# Altium integrated library NSC Switch Caps.IntLib: 64 symbols (part 2 of 2)
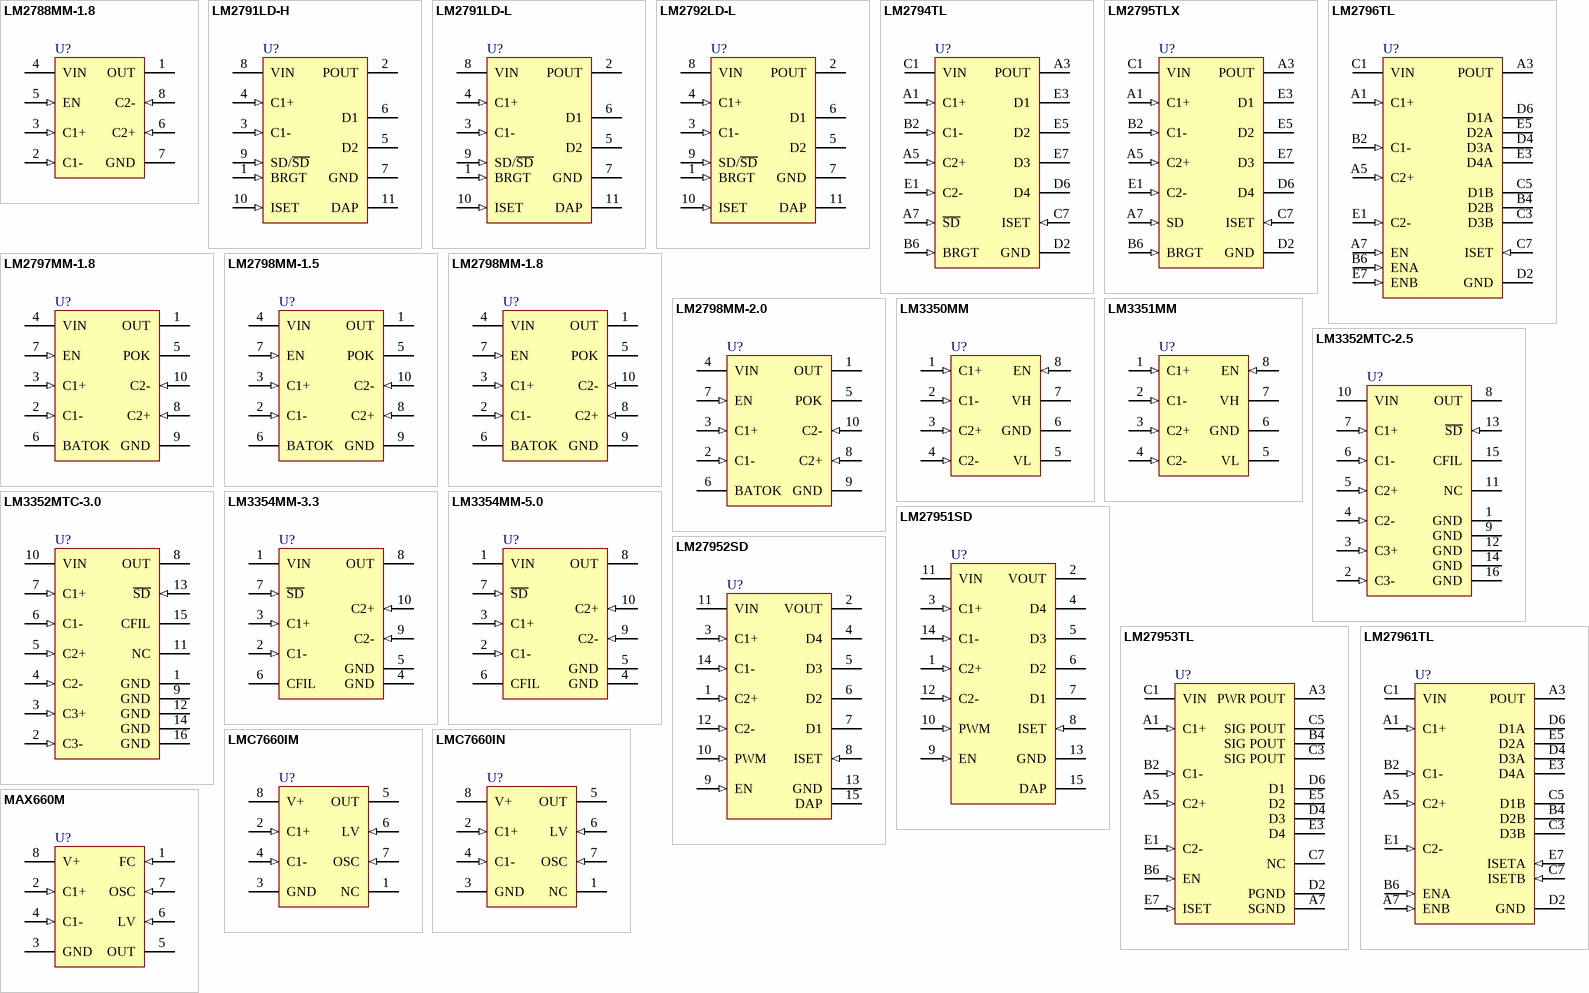
[diagram p2: symbols LM2788MM-1.8 to MAX660M]

## LM2794TL
designator U?
Current Regulated Switched Capacitor LED Supply with Analog and PWM Brightness Control; PartNumber: LM2794TL; Manufacturer: National Semiconductor; CompType: Switch Caps; PackageTopMarking: XYTT*I LOG; Published: 4-Dec-2008; DatasheetVersion: Mar-2004; PackageVersion: revC, Mar-2004; PackageReference: TLP14EHA; Publisher: Altium Limited; PackageDescription: Thin Micro SMD, 14 Bump (Large), Peripheral, 0.5mm Pitch; RoHS: Y; PinCount: 14; DigiKeyPartNumber: LM2794TLCT-ND; ComponentLink1Description: LM2794 Datasheet; ComponentLink1URL: http://www.national.com/ds/LM/LM2794.pdf; ComponentLink2Description: LM2794 Web Page; ComponentLink2URL: http://www.national.com/pf/LM/LM2794.html; ComponentLink3Description: TLP14EHA Package Page; ComponentLink3URL: http://www.national.com/packaging/folders/tlp14eha.html
footprint TLP14EHA (Micro SMD, 14-Leads, Body 2.4x2.1mm, Pitch 0.5mm, NSC Recommended)
pins: A1 C1+ (in), A3 POUT (power), A5 C2+ (in), A7 ~{SD} (in), B2 C1- (in), B6 BRGT (in), C1 VIN (power), C7 ISET (in), D2 GND (power), D6 D4 (oc), E1 C2- (in), E3 D1 (oc), E5 D2 (oc), E7 D3 (oc)

## LM2795TLX
designator U?
Current Regulated Switched Capacitor LED Supply with Analog and PWM Brightness Control; PartNumber: LM2795TLX; Manufacturer: National Semiconductor; CompType: Switch Caps; PackageTopMarking: XYTT*I LOJ; Published: 4-Dec-2008; DatasheetVersion: Mar-2004; PackageVersion: revC, Mar-2004; PackageReference: TLP14EHA; Publisher: Altium Limited; PackageDescription: Thin Micro SMD, 14 Bump (Large), Peripheral, 0.5mm Pitch; RoHS: Y; PinCount: 14; ComponentLink1Description: LM2795 Datasheet; ComponentLink1URL: http://www.national.com/ds/LM/LM2795.pdf; ComponentLink2Description: LM2795 Web Page; ComponentLink2URL: http://www.national.com/pf/LM/LM2795.html; ComponentLink3Description: TLP14EHA Package Page; ComponentLink3URL: http://www.national.com/packaging/folders/tlp14eha.html
footprint TLP14EHA (Micro SMD, 14-Leads, Body 2.4x2.1mm, Pitch 0.5mm, NSC Recommended)
pins: A1 C1+ (in), A3 POUT (power), A5 C2+ (in), A7 SD (in), B2 C1- (in), B6 BRGT (in), C1 VIN (power), C7 ISET (in), D2 GND (power), D6 D4 (oc), E1 C2- (in), E3 D1 (oc), E5 D2 (oc), E7 D3 (oc)

## LM2796TL
designator U?
Dual-Display White LED Driver with 3/2x Switched Capacitor Boost; PartNumber: LM2796TL; Manufacturer: National Semiconductor; CompType: Switch Caps; PackageTopMarking: XYTT*I SAJB; Published: 4-Dec-2008; DatasheetVersion: Feb-2004; PackageVersion: revD, Jan-2005; PackageReference: TLA18EHA; Publisher: Altium Limited; PackageDescription: Thin Micro SMD, 18 Bump (Large), 0.5mm Pitch; RoHS: Y; PinCount: 18; DigiKeyPartNumber: LM2796TLCT-ND; ComponentLink1Description: LM2796 Datasheet; ComponentLink1URL: http://www.national.com/ds/LM/LM2796.pdf; ComponentLink2Description: LM2796 Web Page; ComponentLink2URL: http://www.national.com/pf/LM/LM2796.html; ComponentLink3Description: TLA18EHA Package Page; ComponentLink3URL: http://www.national.com/packaging/folders/tla18eha.html
footprint TLA18EHA (Micro SMD, 18-Leads, Body 2.4x2.1mm, Pitch 0.5mm, NSC Recommended)
pins: A1 C1+ (in), A3 POUT (power), A5 C2+ (in), A7 EN (in), B2 C1- (in), B4 D2B (oc), B6 ENA (in), C1 VIN (power), C3 D3B (oc), C5 D1B (oc), C7 ISET (in), D2 GND (power), D4 D3A (oc), D6 D1A (oc), E1 C2- (in), E3 D4A (oc), E5 D2A (oc), E7 ENB (in)

## LM2797MM-1.8
designator U?
120mA High Efficiency Step-Down Switched Capacitor Voltage Converter with Voltage Monitoring; PartNumber: LM2797MM-1.8; Manufacturer: National Semiconductor; CompType: Switch Caps; PackageTopMarking: ZXTT*S80B; Published: 4-Dec-2008; DatasheetVersion: Apr-2003; PackageVersion: revB, Jul-2003; PackageReference: MUB10A; Publisher: Altium Limited; PackageDescription: Mini-SO, Molded, .118 x .118 x .034in Body, 10 Lead, .0197in Pitch; RoHS: Y; PinCount: 10; DigiKeyPartNumber: LM2797MM-1.8CT-ND; Code_JEDEC: MO-187-BA; ComponentLink1Description: LM2797 Datasheet; ComponentLink1URL: http://www.national.com/ds/LM/LM2797.pdf; ComponentLink2Description: LM2797 Web Page; ComponentLink2URL: http://www.national.com/pf/LM/LM2797.html; ComponentLink3Description: MUB10A Package Page; ComponentLink3URL: http://www.national.com/packaging/folders/mub10a.html
footprint MUB10A_N (TSSOP, 10-Leads, Body 3x3mm, Pitch 0.5mm, IPC Medium Density)
footprint MUB10A_L (TSSOP, 10-Leads, Body 3x3mm, Pitch 0.5mm, IPC High Density)
footprint MUB10A_M (TSSOP, 10-Leads, Body 3x3mm, Pitch 0.5mm, IPC Low Density)
pins: 1 OUT (power), 2 C1- (in), 3 C1+ (in), 4 VIN (power), 5 POK (oc), 6 BATOK (oc), 7 EN (in), 8 C2+ (in), 9 GND (power), 10 C2- (in)

## LM2798MM-1.5
designator U?
120mA High Efficiency Step-Down Switched Capacitor Voltage Converter with Voltage Monitoring; PartNumber: LM2798MM-1.5; Manufacturer: National Semiconductor; CompType: Switch Caps; PackageTopMarking: ZXTT*S56B; Published: 4-Dec-2008; DatasheetVersion: Apr-2003; PackageVersion: revB, Jul-2003; PackageReference: MUB10A; Publisher: Altium Limited; PackageDescription: Mini-SO, Molded, .118 x .118 x .034in Body, 10 Lead, .0197in Pitch; RoHS: Y; PinCount: 10; DigiKeyPartNumber: LM2798MM-1.5CT-ND; Code_JEDEC: MO-187-BA; ComponentLink1Description: LM2798 Datasheet; ComponentLink1URL: http://www.national.com/ds/LM/LM2798.pdf; ComponentLink2Description: LM2798 Web Page; ComponentLink2URL: http://www.national.com/pf/LM/LM2798.html; ComponentLink3Description: MUB10A Package Page; ComponentLink3URL: http://www.national.com/packaging/folders/mub10a.html
footprint MUB10A_N (TSSOP, 10-Leads, Body 3x3mm, Pitch 0.5mm, IPC Medium Density)
footprint MUB10A_L (TSSOP, 10-Leads, Body 3x3mm, Pitch 0.5mm, IPC High Density)
footprint MUB10A_M (TSSOP, 10-Leads, Body 3x3mm, Pitch 0.5mm, IPC Low Density)
pins: 1 OUT (power), 2 C1- (in), 3 C1+ (in), 4 VIN (power), 5 POK (oc), 6 BATOK (oc), 7 EN (in), 8 C2+ (in), 9 GND (power), 10 C2- (in)

## LM2798MM-1.8
designator U?
120mA High Efficiency Step-Down Switched Capacitor Voltage Converter with Voltage Monitoring; PartNumber: LM2798MM-1.8; Manufacturer: National Semiconductor; CompType: Switch Caps; PackageTopMarking: ZXTT*S57B; Published: 4-Dec-2008; DatasheetVersion: Apr-2003; PackageVersion: revB, Jul-2003; PackageReference: MUB10A; Publisher: Altium Limited; PackageDescription: Mini-SO, Molded, .118 x .118 x .034in Body, 10 Lead, .0197in Pitch; RoHS: Y; PinCount: 10; DigiKeyPartNumber: LM2798MM-1.8CT-ND; Code_JEDEC: MO-187-BA; ComponentLink1Description: LM2798 Datasheet; ComponentLink1URL: http://www.national.com/ds/LM/LM2798.pdf; ComponentLink2Description: LM2798 Web Page; ComponentLink2URL: http://www.national.com/pf/LM/LM2798.html; ComponentLink3Description: MUB10A Package Page; ComponentLink3URL: http://www.national.com/packaging/folders/mub10a.html
footprint MUB10A_N (TSSOP, 10-Leads, Body 3x3mm, Pitch 0.5mm, IPC Medium Density)
footprint MUB10A_L (TSSOP, 10-Leads, Body 3x3mm, Pitch 0.5mm, IPC High Density)
footprint MUB10A_M (TSSOP, 10-Leads, Body 3x3mm, Pitch 0.5mm, IPC Low Density)
pins: 1 OUT (power), 2 C1- (in), 3 C1+ (in), 4 VIN (power), 5 POK (oc), 6 BATOK (oc), 7 EN (in), 8 C2+ (in), 9 GND (power), 10 C2- (in)

## LM2798MM-2.0
designator U?
120mA High Efficiency Step-Down Switched Capacitor Voltage Converter with Voltage Monitoring; PartNumber: LM2798MM-2.0; Manufacturer: National Semiconductor; CompType: Switch Caps; PackageTopMarking: ZXTT*S58B; Published: 4-Dec-2008; DatasheetVersion: Apr-2003; PackageVersion: revB, Jul-2003; PackageReference: MUB10A; Publisher: Altium Limited; PackageDescription: Mini-SO, Molded, .118 x .118 x .034in Body, 10 Lead, .0197in Pitch; RoHS: Y; PinCount: 10; DigiKeyPartNumber: LM2798MM-2.0CT-ND; Code_JEDEC: MO-187-BA; ComponentLink1Description: LM2798 Datasheet; ComponentLink1URL: http://www.national.com/ds/LM/LM2798.pdf; ComponentLink2Description: LM2798 Web Page; ComponentLink2URL: http://www.national.com/pf/LM/LM2798.html; ComponentLink3Description: MUB10A Package Page; ComponentLink3URL: http://www.national.com/packaging/folders/mub10a.html
footprint MUB10A_N (TSSOP, 10-Leads, Body 3x3mm, Pitch 0.5mm, IPC Medium Density)
footprint MUB10A_L (TSSOP, 10-Leads, Body 3x3mm, Pitch 0.5mm, IPC High Density)
footprint MUB10A_M (TSSOP, 10-Leads, Body 3x3mm, Pitch 0.5mm, IPC Low Density)
pins: 1 OUT (power), 2 C1- (in), 3 C1+ (in), 4 VIN (power), 5 POK (oc), 6 BATOK (oc), 7 EN (in), 8 C2+ (in), 9 GND (power), 10 C2- (in)

## LM3350MM
designator U?
Switched Capacitor Voltage Converter; PartNumber: LM3350MM; Manufacturer: National Semiconductor; CompType: Switch Caps; PackageTopMarking: ZXTT*S00A; Published: 4-Dec-2008; DatasheetVersion: Dec-1999; PackageVersion: revF, Apr-2008; PackageReference: MUA08A; Publisher: Altium Limited; PackageDescription: MINI SOIC, .118 x .118 x .034in, 8 Lead, .0256in Pitch; RoHS: Y; PinCount: 8; DigiKeyPartNumber: LM3350MMCT-ND; Code_JEDEC: MO-187-AA; ComponentLink1Description: LM3350 Datasheet; ComponentLink1URL: http://www.national.com/ds/LM/LM3350.pdf; ComponentLink2Description: LM3350 Web Page; ComponentLink2URL: http://www.national.com/pf/LM/LM3350.html; ComponentLink3Description: MUA08A Package Page; ComponentLink3URL: http://www.national.com/packaging/folders/mua08a.html
footprint MUA08A_N (TSOP, 8-Leads, Body 3x3mm, Pitch 0.65mm, IPC Medium Density)
footprint MUA08A_L (TSOP, 8-Leads, Body 3x3mm, Pitch 0.65mm, IPC High Density)
footprint MUA08A_M (TSOP, 8-Leads, Body 3x3mm, Pitch 0.65mm, IPC Low Density)
pins: 1 C1+ (in), 2 C1- (in), 3 C2+ (in), 4 C2- (in), 5 VL (power), 6 GND (power), 7 VH (power), 8 EN (in)

## LM3351MM
designator U?
Switched Capacitor Voltage Converter; PartNumber: LM3351MM; Manufacturer: National Semiconductor; CompType: Switch Caps; PackageTopMarking: ZXTT*S05A; Published: 4-Dec-2008; DatasheetVersion: Dec-1999; PackageVersion: revF, Apr-2008; PackageReference: MUA08A; Publisher: Altium Limited; PackageDescription: MINI SOIC, .118 x .118 x .034in, 8 Lead, .0256in Pitch; RoHS: O; PinCount: 8; DigiKeyPartNumber: LM3351MMCT-ND; Code_JEDEC: MO-187-AA; ComponentLink1Description: LM3351 Datasheet; ComponentLink1URL: http://www.national.com/ds/LM/LM3351.pdf; ComponentLink2Description: LM3351 Web Page; ComponentLink2URL: http://www.national.com/pf/LM/LM3351.html; ComponentLink3Description: MUA08A Package Page; ComponentLink3URL: http://www.national.com/packaging/folders/mua08a.html
footprint MUA08A_N (TSOP, 8-Leads, Body 3x3mm, Pitch 0.65mm, IPC Medium Density)
footprint MUA08A_L (TSOP, 8-Leads, Body 3x3mm, Pitch 0.65mm, IPC High Density)
footprint MUA08A_M (TSOP, 8-Leads, Body 3x3mm, Pitch 0.65mm, IPC Low Density)
pins: 1 C1+ (in), 2 C1- (in), 3 C2+ (in), 4 C2- (in), 5 VL (power), 6 GND (power), 7 VH (power), 8 EN (in)

## LM3352MTC-2.5
designator U?
Regulated 200mA Buck-Boost Switched Capacitor DC/DC Converter; PartNumber: LM3352MTC-2.5; Manufacturer: National Semiconductor; CompType: Switch Caps; PackageTopMarking: NSZXYTT*3352M*TC2.5; Published: 4-Dec-2008; DatasheetVersion: Sep-1999; PackageVersion: revD, Jun-2003; PackageReference: MTC16; Publisher: Altium Limited; PackageDescription: Molded TSSOP, Jedec, 5 x 4.4 x 0.9mm Body, 16 Lead, 0.65mm Pitch; RoHS: Y; PinCount: 16; DigiKeyPartNumber: LM3352MTC-2.5-ND; Code_JEDEC: MO-153-AB; ComponentLink1Description: LM3352 Datasheet; ComponentLink1URL: http://www.national.com/ds/LM/LM3352.pdf; ComponentLink2Description: LM3352 Web Page; ComponentLink2URL: http://www.national.com/pf/LM/LM3352.html; ComponentLink3Description: MTC16 Package Page; ComponentLink3URL: http://www.national.com/packaging/folders/mtc16.html
footprint MTC16_N (TSOP, 16-Leads, Body 5x4.4mm, Pitch 0.65mm, IPC Medium Density)
footprint MTC16_L (TSOP, 16-Leads, Body 5x4.4mm, Pitch 0.65mm, IPC High Density)
footprint MTC16_M (TSOP, 16-Leads, Body 5x4.4mm, Pitch 0.65mm, IPC Low Density)
pins: 1 GND (power), 2 C3- (in), 3 C3+ (in), 4 C2- (in), 5 C2+ (in), 6 C1- (in), 7 C1+ (in), 8 OUT (power), 9 GND (power), 10 VIN (power), 11 NC, 12 GND (power), 13 ~{SD} (in), 14 GND (power), 15 CFIL, 16 GND (power)

## LM3352MTC-3.0
designator U?
Regulated 200mA Buck-Boost Switched Capacitor DC/DC Converter; PartNumber: LM3352MTC-3.0; Manufacturer: National Semiconductor; CompType: Switch Caps; PackageTopMarking: NSZXYTT*3352M*TC3.0; Published: 4-Dec-2008; DatasheetVersion: Sep-1999; PackageVersion: revD, Jun-2003; PackageReference: MTC16; Publisher: Altium Limited; PackageDescription: Molded TSSOP, Jedec, 5 x 4.4 x 0.9mm Body, 16 Lead, 0.65mm Pitch; RoHS: Y; PinCount: 16; DigiKeyPartNumber: LM3352MTC-3.0-ND; Code_JEDEC: MO-153-AB; ComponentLink1Description: LM3352 Datasheet; ComponentLink1URL: http://www.national.com/ds/LM/LM3352.pdf; ComponentLink2Description: LM3352 Web Page; ComponentLink2URL: http://www.national.com/pf/LM/LM3352.html; ComponentLink3Description: MTC16 Package Page; ComponentLink3URL: http://www.national.com/packaging/folders/mtc16.html
footprint MTC16_N (TSOP, 16-Leads, Body 5x4.4mm, Pitch 0.65mm, IPC Medium Density)
footprint MTC16_L (TSOP, 16-Leads, Body 5x4.4mm, Pitch 0.65mm, IPC High Density)
footprint MTC16_M (TSOP, 16-Leads, Body 5x4.4mm, Pitch 0.65mm, IPC Low Density)
pins: 1 GND (power), 2 C3- (in), 3 C3+ (in), 4 C2- (in), 5 C2+ (in), 6 C1- (in), 7 C1+ (in), 8 OUT (power), 9 GND (power), 10 VIN (power), 11 NC, 12 GND (power), 13 ~{SD} (in), 14 GND (power), 15 CFIL, 16 GND (power)

## LM3354MM-3.3
designator U?
Regulated 90mA Buck-Boost Switched Capacitor DC/DC Converter; PartNumber: LM3354MM-3.3; Manufacturer: National Semiconductor; CompType: Switch Caps; PackageTopMarking: ZXTT*S36B; Published: 4-Dec-2008; DatasheetVersion: Sep-2002; PackageVersion: revB, Jul-2003; PackageReference: MUB10A; Publisher: Altium Limited; PackageDescription: Mini-SO, Molded, .118 x .118 x .034in Body, 10 Lead, .0197in Pitch; RoHS: Y; PinCount: 10; DigiKeyPartNumber: LM3354MM-3.3CT-ND; Code_JEDEC: MO-187-BA; ComponentLink1Description: LM3354 Datasheet; ComponentLink1URL: http://www.national.com/ds/LM/LM3354.pdf; ComponentLink2Description: LM3354 Web Page; ComponentLink2URL: http://www.national.com/pf/LM/LM3354.html; ComponentLink3Description: MUB10A Package Page; ComponentLink3URL: http://www.national.com/packaging/folders/mub10a.html
footprint MUB10A_N (TSSOP, 10-Leads, Body 3x3mm, Pitch 0.5mm, IPC Medium Density)
footprint MUB10A_L (TSSOP, 10-Leads, Body 3x3mm, Pitch 0.5mm, IPC High Density)
footprint MUB10A_M (TSSOP, 10-Leads, Body 3x3mm, Pitch 0.5mm, IPC Low Density)
pins: 1 VIN (power), 2 C1- (in), 3 C1+ (in), 4 GND (power), 5 GND (power), 6 CFIL, 7 ~{SD} (in), 8 OUT (power), 9 C2- (in), 10 C2+ (in)

## LM3354MM-5.0
designator U?
Regulated 90mA Buck-Boost Switched Capacitor DC/DC Converter; PartNumber: LM3354MM-5.0; Manufacturer: National Semiconductor; CompType: Switch Caps; PackageTopMarking: ZXTT*S54B; Published: 4-Dec-2008; DatasheetVersion: Sep-2002; PackageVersion: revB, Jul-2003; PackageReference: MUB10A; Publisher: Altium Limited; PackageDescription: Mini-SO, Molded, .118 x .118 x .034in Body, 10 Lead, .0197in Pitch; RoHS: O; PinCount: 10; DigiKeyPartNumber: LM3354MM-5.0CT-ND; Code_JEDEC: MO-187-BA; ComponentLink1Description: LM3354 Datasheet; ComponentLink1URL: http://www.national.com/ds/LM/LM3354.pdf; ComponentLink2Description: LM3354 Web Page; ComponentLink2URL: http://www.national.com/pf/LM/LM3354.html; ComponentLink3Description: MUB10A Package Page; ComponentLink3URL: http://www.national.com/packaging/folders/mub10a.html
footprint MUB10A_N (TSSOP, 10-Leads, Body 3x3mm, Pitch 0.5mm, IPC Medium Density)
footprint MUB10A_L (TSSOP, 10-Leads, Body 3x3mm, Pitch 0.5mm, IPC High Density)
footprint MUB10A_M (TSSOP, 10-Leads, Body 3x3mm, Pitch 0.5mm, IPC Low Density)
pins: 1 VIN (power), 2 C1- (in), 3 C1+ (in), 4 GND (power), 5 GND (power), 6 CFIL, 7 ~{SD} (in), 8 OUT (power), 9 C2- (in), 10 C2+ (in)

## LM27951SD
designator U?
White LED Adaptive 1.5X/1X Switched Capacitor Current Driver; PartNumber: LM27951SD; Manufacturer: National Semiconductor; CompType: Switch Caps; PackageTopMarking: ZXYTT*D006B; Published: 4-Dec-2008; DatasheetVersion: Nov-2005; PackageVersion: revA, Jun-2003; PackageReference: SDA14A; Publisher: Altium Limited; PackageDescription: LLP, Plastic, Dual, 4 x 3 x 0.8mm Body, 14 Lead, 0.5mm Pitch, No Pullback; RoHS: Y; PinCount: 14; DigiKeyPartNumber: LM27951SDCT-ND; ComponentLink1Description: LM27951 Datasheet; ComponentLink1URL: http://www.national.com/ds/LM/LM27951.pdf; ComponentLink2Description: LM27951 Web Page; ComponentLink2URL: http://www.national.com/pf/LM/LM27951.html; ComponentLink3Description: SDA14A Package Page; ComponentLink3URL: http://www.national.com/packaging/folders/sda14a.html
footprint SDA14A (SON, 14-Leads, Body 4x3mm, Pitch 0.5mm, NSC Recommended)
pins: 1 C2+ (in), 2 VOUT (power), 3 C1+ (in), 4 D4 (oc), 5 D3 (oc), 6 D2 (oc), 7 D1 (oc), 8 ISET (in), 9 EN (in), 10 PWM (in), 11 VIN (power), 12 C2- (in), 13 GND (power), 14 C1- (in), 15 DAP (power)

## LM27952SD
designator U?
White LED Adaptive 1.5X/1X Switched Capacitor Current Driver; PartNumber: LM27952SD; Manufacturer: National Semiconductor; CompType: Switch Caps; PackageTopMarking: ZXYTT*D005B; Published: 4-Dec-2008; DatasheetVersion: Aug-2005; PackageVersion: revA, Jun-2003; PackageReference: SDA14A; Publisher: Altium Limited; PackageDescription: LLP, Plastic, Dual, 4 x 3 x 0.8mm Body, 14 Lead, 0.5mm Pitch, No Pullback; RoHS: Y; PinCount: 14; DigiKeyPartNumber: LM27952SDCT-ND; ComponentLink1Description: LM27952 Datasheet; ComponentLink1URL: http://www.national.com/ds/LM/LM27952.pdf; ComponentLink2Description: LM27952 Web Page; ComponentLink2URL: http://www.national.com/pf/LM/LM27952.html; ComponentLink3Description: SDA14A Package Page; ComponentLink3URL: http://www.national.com/packaging/folders/sda14a.html
footprint SDA14A (SON, 14-Leads, Body 4x3mm, Pitch 0.5mm, NSC Recommended)
pins: 1 C2+ (in), 2 VOUT (power), 3 C1+ (in), 4 D4 (oc), 5 D3 (oc), 6 D2 (oc), 7 D1 (oc), 8 ISET (in), 9 EN (in), 10 PWM (in), 11 VIN (power), 12 C2- (in), 13 GND (power), 14 C1- (in), 15 DAP (power)

## LM27953TL
designator U?
White LED Driver with Four LED Current Sinks and 3/2x Switched Capacitor Boost; PartNumber: LM27953TL; Manufacturer: National Semiconductor; CompType: Switch Caps; PackageTopMarking: XYTT*I SHPB; Published: 4-Dec-2008; DatasheetVersion: Nov-2004; PackageVersion: revD, Jan-2005; PackageReference: TLA18EHA; Publisher: Altium Limited; PackageDescription: Thin Micro SMD, 18 Bump (Large), 0.5mm Pitch; RoHS: Y; PinCount: 18; DigiKeyPartNumber: LM27953TLCT-ND; ComponentLink1Description: LM27953 Datasheet; ComponentLink1URL: http://www.national.com/ds/LM/LM27953.pdf; ComponentLink2Description: LM27953 Web Page; ComponentLink2URL: http://www.national.com/pf/LM/LM27953.html; ComponentLink3Description: TLA18EHA Package Page; ComponentLink3URL: http://www.national.com/packaging/folders/tla18eha.html
footprint TLA18EHA (Micro SMD, 18-Leads, Body 2.4x2.1mm, Pitch 0.5mm, NSC Recommended)
pins: A1 C1+ (in), A3 PWR POUT (power), A5 C2+ (in), A7 SGND (power), B2 C1- (in), B4 SIG POUT (power), B6 EN (in), C1 VIN (power), C3 SIG POUT (power), C5 SIG POUT (power), C7 NC, D2 PGND (power), D4 D3 (oc), D6 D1 (oc), E1 C2- (in), E3 D4 (oc), E5 D2 (oc), E7 ISET (in)

## LM27961TL
designator U?
Dual-Display White LED Driver with 3/2x Switched Capacitor Boost; PartNumber: LM27961TL; Manufacturer: National Semiconductor; CompType: Switch Caps; PackageTopMarking: XYTT*I SECB; Published: 4-Dec-2008; DatasheetVersion: Nov-2004; PackageVersion: revD, Jan-2005; PackageReference: TLA18EHA; Publisher: Altium Limited; PackageDescription: Thin Micro SMD, 18 Bump (Large), 0.5mm Pitch; RoHS: Y; PinCount: 18; DigiKeyPartNumber: LM27961TLCT-ND; ComponentLink1Description: LM27961 Datasheet; ComponentLink1URL: http://www.national.com/ds/LM/LM27961.pdf; ComponentLink2Description: LM27961 Web Page; ComponentLink2URL: http://www.national.com/pf/LM/LM27961.html; ComponentLink3Description: TLA18EHA Package Page; ComponentLink3URL: http://www.national.com/packaging/folders/tla18eha.html
footprint TLA18EHA (Micro SMD, 18-Leads, Body 2.4x2.1mm, Pitch 0.5mm, NSC Recommended)
pins: A1 C1+ (in), A3 POUT (power), A5 C2+ (in), A7 ENB (in), B2 C1- (in), B4 D2B (oc), B6 ENA (in), C1 VIN (power), C3 D3B (oc), C5 D1B (oc), C7 ISETB (in), D2 GND (power), D4 D3A (oc), D6 D1A (oc), E1 C2- (in), E3 D4A (oc), E5 D2A (oc), E7 ISETA (in)

## LMC7660IM
designator U?
Switched Capacitor Voltage Converter; PartNumber: LMC7660IM; Manufacturer: National Semiconductor; CompType: Switch Caps; PackageTopMarking: NSZXTT*LMC76*60IM; Published: 4-Dec-2008; DatasheetVersion: Feb-2005; PackageVersion: revL, Sep-2006; PackageReference: M08A; Publisher: Altium Limited; PackageDescription: SOIC Narrow, 4.9 x 3.9 x 1.45mm, 8 Lead, 1.27mm Pitch; RoHS: O; PinCount: 8; DigiKeyPartNumber: LMC7660IM-ND; Code_JEDEC: MS-012-AA; Code_IPC: SOIC127P600-8; ComponentLink1Description: LMC7660 Datasheet; ComponentLink1URL: http://www.national.com/ds/LM/LMC7660.pdf; ComponentLink2Description: LMC7660 Web Page; ComponentLink2URL: http://www.national.com/pf/LM/LMC7660.html; ComponentLink3Description: M08A Package Page; ComponentLink3URL: http://www.national.com/packaging/folders/m08a.html
footprint M08A_N (SOIC, 8-Leads, Body 4.9x3.9mm, Pitch 1.27mm, IPC Medium Density)
footprint M08A_L (SOIC, 8-Leads, Body 4.9x3.9mm, Pitch 1.27mm, IPC High Density)
footprint M08A_M (SOIC, 8-Leads, Body 4.9x3.9mm, Pitch 1.27mm, IPC Low Density)
pins: 1 NC, 2 C1+ (in), 3 GND (power), 4 C1- (in), 5 OUT (power), 6 LV (in), 7 OSC (in), 8 V+ (power)

## LMC7660IN
designator U?
Switched Capacitor Voltage Converter; PartNumber: LMC7660IN; Manufacturer: National Semiconductor; CompType: Switch Caps; PackageTopMarking: NSUZXYTT*LMC*7660IN; Published: 4-Dec-2008; DatasheetVersion: Feb-2005; PackageVersion: revG, May-2006; PackageReference: N08E; Publisher: Altium Limited; PackageDescription: MDIP, .365 x .250 x .130in, 8 Lead, .100in Pitch; RoHS: O; PinCount: 8; DigiKeyPartNumber: LMC7660IN-ND; Code_JEDEC: MS-001-BA; ComponentLink1Description: LMC7660 Datasheet; ComponentLink1URL: http://www.national.com/ds/LM/LMC7660.pdf; ComponentLink2Description: LMC7660 Web Page; ComponentLink2URL: http://www.national.com/pf/LM/LMC7660.html; ComponentLink3Description: N08E Package Page; ComponentLink3URL: http://www.national.com/packaging/folders/n08e.html
footprint N08E (DIP, 8-Leads, Row Spacing 7.62mm, Pitch 2.54mm, Body 9.91x6.35mm)
pins: 1 NC, 2 C1+ (in), 3 GND (power), 4 C1- (in), 5 OUT (power), 6 LV (in), 7 OSC (in), 8 V+ (power)

## MAX660M
designator U?
Switched Capacitor Voltage Converter; PartNumber: MAX660M; Manufacturer: National Semiconductor; CompType: Switch Caps; PackageTopMarking: NSZXTT*MAX*660M; Published: 4-Dec-2008; DatasheetVersion: Nov-1999; PackageVersion: revL, Sep-2006; PackageReference: M08A; Publisher: Altium Limited; PackageDescription: SOIC Narrow, 4.9 x 3.9 x 1.45mm, 8 Lead, 1.27mm Pitch; RoHS: O; PinCount: 8; DigiKeyPartNumber: MAX660M-ND; Code_JEDEC: MS-012-AA; Code_IPC: SOIC127P600-8; ComponentLink1Description: MAX660 Datasheet; ComponentLink1URL: http://www.national.com/ds/MA/MAX660.pdf; ComponentLink2Description: MAX660 Web Page; ComponentLink2URL: http://www.national.com/pf/MA/MAX660.html; ComponentLink3Description: M08A Package Page; ComponentLink3URL: http://www.national.com/packaging/folders/m08a.html
footprint M08A_N (SOIC, 8-Leads, Body 4.9x3.9mm, Pitch 1.27mm, IPC Medium Density)
footprint M08A_L (SOIC, 8-Leads, Body 4.9x3.9mm, Pitch 1.27mm, IPC High Density)
footprint M08A_M (SOIC, 8-Leads, Body 4.9x3.9mm, Pitch 1.27mm, IPC Low Density)
pins: 1 FC (in), 2 C1+ (in), 3 GND (power), 4 C1- (in), 5 OUT (power), 6 LV (in), 7 OSC (in), 8 V+ (power)